# Altium footprint library RF Connector.PcbLib: 19 footprints (part 2 of 2)
Each footprint in its own frame and in the unit in brackets; x right, y up, seen from the top. Pads: shape width x height; smd on the part's side, far side on the other; paste and mask are expansions set on the pad; w line width, h text height; cw(c..) or ccw(c..) is an arc to the next point about the centre after c.
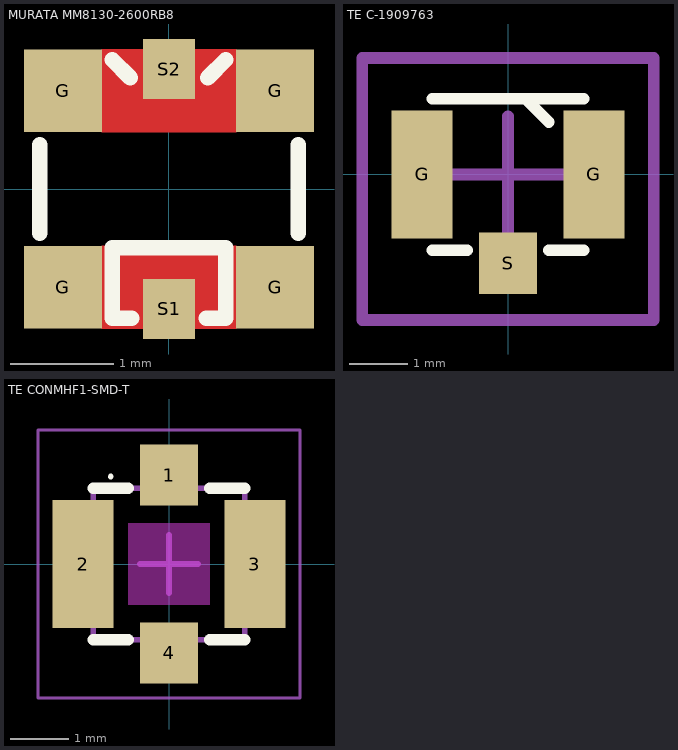
[diagram p1: the footprints below, top view; thin cyan lines are the x and y axes]

## MURATA MM8130-2600RB8 [mm] "Microwave Coaxial Cable Connectors"
height 1.2
pads (6):
  rect 0.75x0.8 smd: G(-1.025,-0.95) G(-1.025,0.95) G(1.025,-0.95) G(1.025,0.95)
  rect 0.5x0.58 smd: S1(0,-1.16) S2(0,1.16)
Top Layer:
  pour cut-out: 0.65,-0.55 -0.65,-0.55 -0.65,-1.35 0.65,-1.35
  pour cut-out: -0.65,0.55 0.65,0.55 0.65,1.35 -0.65,1.35
Top Overlay:
  lines w0.15: -1.25,-0.43 -1.25,0.43 ; -0.55,1.25 -0.375,1.075 ; -0.36,-1.25 -0.55,-1.25 -0.55,-0.57 0.55,-0.57 0.55,-1.25 0.36,-1.25 ; 0.375,1.075 0.55,1.25 ; 1.25,-0.43 1.25,0.43

## TE C-1909763 [mm]
height 1.25
pads (3):
  rect 1.05x2.2 smd: G(-1.475,0) G(1.475,0)
  rect 1x1.05 smd: S(0,-1.525)
Top Overlay:
  lines w0.2: -1.3,-1.3 -0.7,-1.3 ; -1.3,1.3 1.3,1.3 ; 0.3,1.3 0.7,0.9 ; 0.7,-1.3 1.3,-1.3
Top Courtyard:
  lines w0.2: -1,0 1,0 ; 0,-1 0,1 ; -2.5,-2.5 -2.5,2 2.5,2 2.5,-2.5 -2.5,-2.5
3D body "TE 1909763-1.STEP": height 1.23, standoff 0, extent -1.5,-1.55 1.5,1.55

## TE CONMHF1-SMD-T [mm]
pads (4):
  rect 1x1.05 smd: 1(0,1.525) 4(0,-1.525)
  rect 1.05x2.2 smd: 2(-1.475,0) 3(1.475,0)
Top Overlay:
  lines w0.1: -1,1.5 ccw(c-1.05,1.479) -1,1.5
  lines w0.2: -1.3,-1.3 -0.7,-1.3 ; -1.3,1.3 -0.7,1.3 ; 0.7,-1.3 1.3,-1.3 ; 0.7,1.3 1.3,1.3
Keep-Out Layer:
  region: 0.7,-0.7 -0.7,-0.7 -0.7,0.7 0.7,0.7
Top Component Center:
  lines w0.1: -0.5,0 0.5,0 ; 0,-0.5 0,0.5
Top Component Outline:
  lines w0.1: -1.3,-1.3 -1.3,1.3 1.3,1.3 1.3,-1.3 -1.3,-1.3
Top Courtyard:
  lines w0.05: -2.25,-2.3 2.25,-2.3 2.25,2.3 -2.25,2.3 -2.25,-2.3
3D body "step_temp.STEP": height 1.31, standoff 0, extent -1.5,-1.55 1.5,1.55